# EAGLE library part TEENSY-3.6_ONLY_HOLES (library Teensy-3.6)
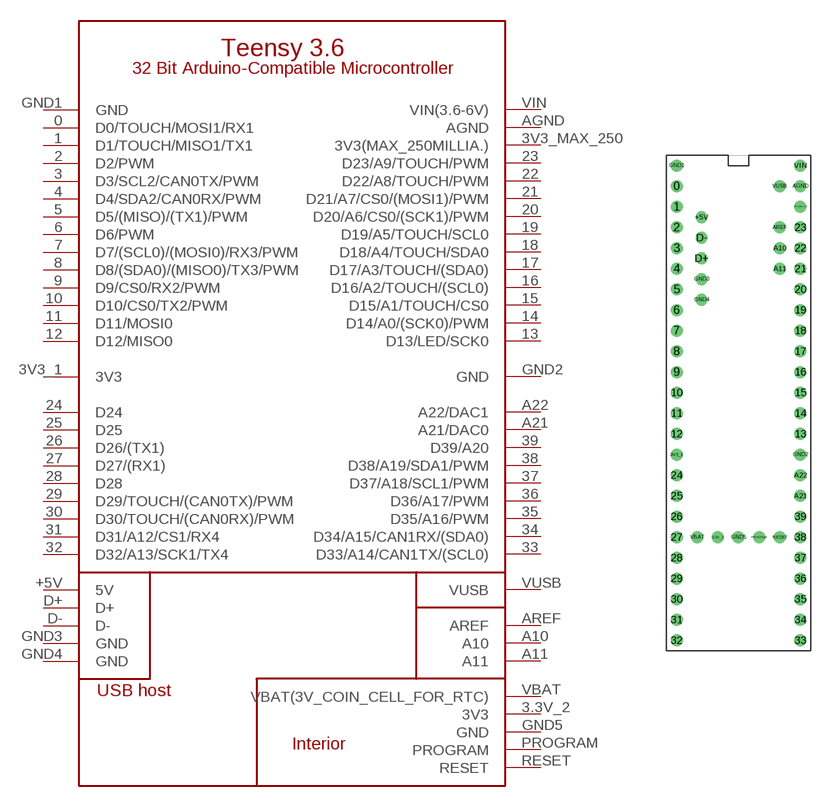
[diagram p1: symbol with the pads of TEENSY-3.6_ONLY_HOLES; footprint TEENSY-3.6_ONLY_HOLES]

Designator prefix -

## TEENSY-3.6_ONLY_HOLES  [TEENSY-3.6_ONLY_HOLES]
0  D0/TOUCH/MOSI1/RX1
1  D1/TOUCH/MISO1/TX1
2  D2/PWM
3  D3/SCL2/CAN0TX/PWM
3.3V_2  3V3
3V3_1  3V3  pwr
3V3_MAX_250  3V3(MAX_250MILLIA.)
4  D4/SDA2/CAN0RX/PWM
5  D5/(MISO)/(TX1)/PWM
6  D6/PWM
7  D7/(SCL0)/(MOSI0)/RX3/PWM
8  D8/(SDA0)/(MISO0)/TX3/PWM
9  D9/CS0/RX2/PWM
10  D10/CS0/TX2/PWM
11  D11/MOSI0
12  D12/MISO0
13  D13/LED/SCK0
14  D14/A0/(SCK0)/PWM
15  D15/A1/TOUCH/CS0
16  D16/A2/TOUCH/(SCL0)
17  D17/A3/TOUCH/(SDA0)
18  D18/A4/TOUCH/SDA0
19  D19/A5/TOUCH/SCL0
20  D20/A6/CS0/(SCK1)/PWM
21  D21/A7/CS0/(MOSI1)/PWM
22  D22/A8/TOUCH/PWM
23  D23/A9/TOUCH/PWM
24  D24
25  D25
26  D26/(TX1)
27  D27/(RX1)
28  D28
29  D29/TOUCH/(CAN0TX)/PWM
30  D30/TOUCH/(CAN0RX)/PWM
31  D31/A12/CS1/RX4
32  D32/A13/SCK1/TX4
33  D33/A14/CAN1TX/(SCL0)
34  D34/A15/CAN1RX/(SDA0)
35  D35/A16/PWM
36  D36/A17/PWM
37  D37/A18/SCL1/PWM
38  D38/A19/SDA1/PWM
39  D39/A20
+5V  5V
A10  A10
A11  A11
A21  A21/DAC0
A22  A22/DAC1
AGND  AGND  pwr
AREF  AREF
D+  D+
D-  D-
GND1  GND  pwr
GND2  GND  pwr
GND3  GND
GND4  GND
GND5  GND
PROGRAM  PROGRAM
RESET  RESET
VBAT  VBAT(3V_COIN_CELL_FOR_RTC)
VIN  VIN(3.6-6V)  pwr
VUSB  VUSB

## Footprint TEENSY-3.6_ONLY_HOLES (pad centres in mm)
drill 0.965: 0 -7.62,5.08; 1 -7.62,2.54; 2 -7.62,0; 3 -7.62,-2.54; 3.3V_2 -2.54,-38.1; 3V3_1 -7.62,-27.94; 3V3_MAX_250 7.62,2.54; 4 -7.62,-5.08; 5 -7.62,-7.62; 6 -7.62,-10.16; 7 -7.62,-12.7; 8 -7.62,-15.24; 9 -7.62,-17.78; 10 -7.62,-20.32; 11 -7.62,-22.86; 12 -7.62,-25.4; 13 7.62,-25.4; 14 7.62,-22.86; 15 7.62,-20.32; 16 7.62,-17.78; 17 7.62,-15.24; 18 7.62,-12.7; 19 7.62,-10.16; 20 7.62,-7.62; 21 7.62,-5.08; 22 7.62,-2.54; 23 7.62,0; 24 -7.62,-30.48; 25 -7.62,-33.02; 26 -7.62,-35.56; 27 -7.62,-38.1; 28 -7.62,-40.64; 29 -7.62,-43.18; 30 -7.62,-45.72; 31 -7.62,-48.26; 32 -7.62,-50.8; 33 7.62,-50.8; 34 7.62,-48.26; 35 7.62,-45.72; 36 7.62,-43.18; 37 7.62,-40.64; 38 7.62,-38.1; 39 7.62,-35.56; +5V -4.547,1.27; A10 5.08,-2.54; A11 5.08,-5.08; A21 7.62,-33.02; A22 7.62,-30.48; AGND 7.62,5.08; AREF 5.08,0; D+ -4.547,-3.81; D- -4.547,-1.27; GND1 -7.62,7.62; GND2 7.62,-27.94; GND3 -4.547,-6.35; GND4 -4.547,-8.89; GND5 0,-38.1; PROGRAM 2.54,-38.1; RESET 5.08,-38.1; VBAT -5.08,-38.1; VIN 7.62,7.62; VUSB 5.08,5.08